# Altium schematic symbol library MOSFET.SchLib: 5 symbols
Pins are listed as number, name and electrical type; pins without a type are passive.

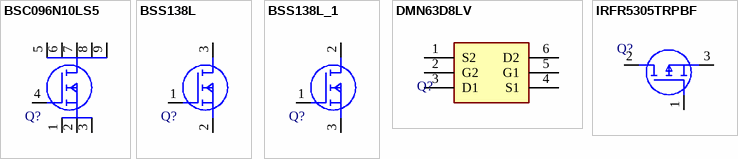
[diagram p0: symbols BSC096N10LS5 to IRFR5305TRPBF]

## BSC096N10LS5
designator Q?
NMOS; Manufacturer Part Number 1: BSC096N10LS5ATMA1; Manufacturer 1: Infineon Technologies; Value: *; Package: 8-PowerTDFN
footprint BSC096N10LS5
pins: 1 S, 2 S, 3 S, 4 G, 5 D, 6 D, 7 D, 8 D, 9 D

## BSS138L
designator Q?
NMOS; Manufacturer Part Number 1: BSS138LT1G; Manufacturer 1: ON; Value: *; ERP: *; Supplier Part Number 1: *; Supplier 1: *; Package: SOT23-3
footprint BSS138L
pins: 1 G, 2 S, 3 D

## BSS138L_1
designator Q?
NMOS; Manufacturer Part Number 1: BSS138LT1G; Manufacturer 1: ON; Value: *; ERP: *; Supplier Part Number 1: *; Supplier 1: *; Package: SOT23-3
footprint AOD442
pins: 1 G, 2 D, 3 S

## DMN63D8LV
designator Q?
MOSFET 2N-CH 30V 0.26A SOT563; Manufacturer Part Number 1: DMN63D8LV-7; Manufacturer 1: Diodes Incorporated; Value: *; ERP: *; Supplier Part Number 1: *; Supplier 1: *; Package: SOT563
footprint DMN63D8LV
pins: 1 S2, 2 G2, 3 D1, 4 S1, 5 G1, 6 D2

## IRFR5305TRPBF
designator Q?
P Channel MOSFET -55V HEXFET 65mOhms 42nC TO-252-3; Manufacturer Part Number 1: IRFR5305TRPBF; Manufacturer 1: International Rectifier; Value: *; Supplier Part Number 1: *; Supplier 1: *
footprint DPAK229P991X239-3M (D-PAK, 3-Pads, Body 6.47x6.54mm (max), IPC Low Density)
pins: 1 G, 2 D, 3 S